# Altium footprint library Option 7.PcbLib: 1 footprints
Each footprint in its own frame and in the unit in brackets; x right, y up, seen from the top. Pads: shape width x height; smd on the part's side, far side on the other; paste and mask are expansions set on the pad; w line width, h text height; cw(c..) or ccw(c..) is an arc to the next point about the centre after c.
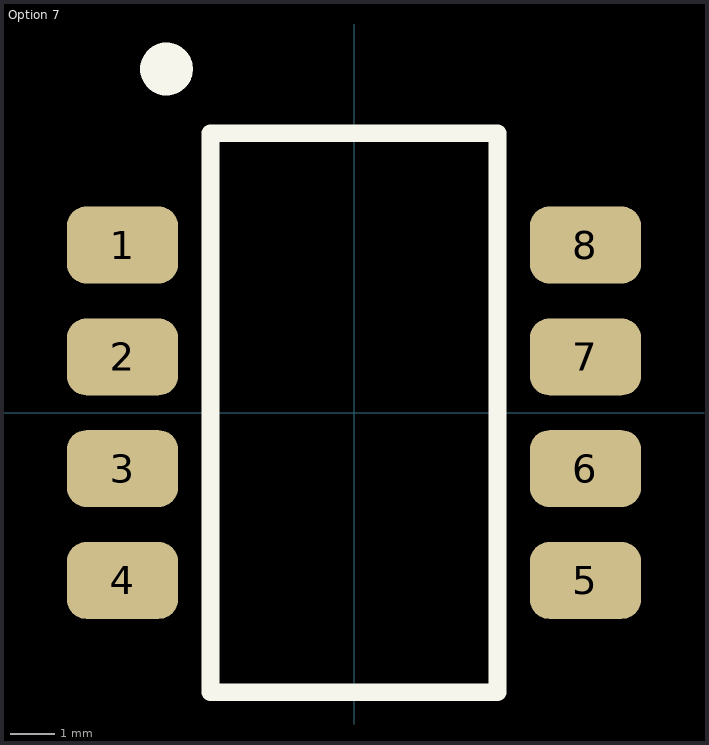
[diagram p0: the footprint, top view; thin cyan lines are the x and y axes]

## Option 7 [mm]
pads (8):
  rrect50% 2.52x1.75 smd mask+0.102: 1(-5.26,3.81)
  rrect50% 2.52x1.75 smd: 2(-5.26,1.27) 3(-5.26,-1.27) 4(-5.26,-3.81) 5(5.26,-3.81) 6(5.26,-1.27) 7(5.26,1.27) 8(5.26,3.81)
Top Overlay:
  circle w0.6: c-4.26,7.81 r0.3
  lines w0.4: -3.26,-6.35 -3.26,6.35 3.26,6.35 3.26,-6.35 -3.26,-6.35